# Altium schematic symbol library op-amp-d_0.Schlib: 1 symbol
Pins are listed as number, name and electrical type; pins without a type are passive.

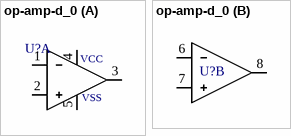
[diagram p0: symbol op-amp-d_0]

## op-amp-d_0
designator U?  (value not drawn)
Dual Op Amp, Generic
part A pins: 1, 2, 3, 4, 5
part B pins: 6, 7, 8
part A text: VCC; VSS